# Altium schematic symbol library eUSR_SchLibrary - PowerSupplies.SchLib: 2 symbols
Pins are listed as number, name and electrical type; pins without a type are passive.

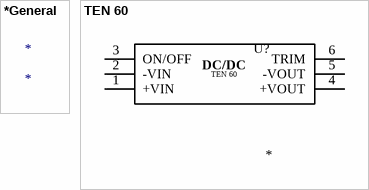
[diagram p0: symbols *General to TEN 60]

## *General
designator *

## TEN 60
designator U?
Datasheet: *; Distributor Link: *
pins: 1 +VIN, 2 -VIN, 3 ON/OFF, 4 +VOUT, 5 -VOUT, 6 TRIM
text: DC/DC